# EAGLE library part CON-6P-3_81-PLUG (library SamacSys_Parts)
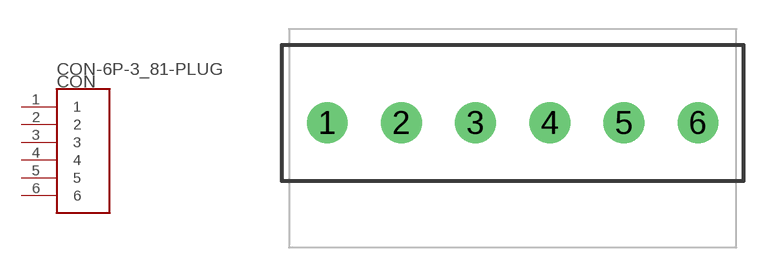
[diagram p8: symbol with the pads of CON-6P-3_81-PLUG; footprint CON-6P-3_81-PLUG]

Designator prefix CON

## CON-6P-3_81-PLUG  [CON-6P-3_81-PLUG]
1  1
2  2
3  3
4  4
5  5
6  6

## Footprint CON-6P-3_81-PLUG (pad centres in mm)
drill 1.4: 1 -9.525,0; 2 -5.715,0; 3 -1.905,0; 4 1.905,0; 5 5.715,0; 6 9.525,0